# Altium schematic symbol library ADP7142ARDZ-R7.SchLib: 1 symbol
Pins are listed as number, name and electrical type; pins without a type are passive.

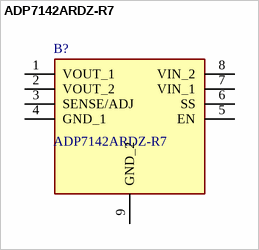
[diagram p0: symbol ADP7142ARDZ-R7]

## ADP7142ARDZ-R7
designator B?
40 V, 200 mA, Low Noise, CMOS LDO Linear Regulator; Manufacturer_Name: Analog Devices; Geometry.Height: 1.75mm; Mouser Part Number: 584-ADP7142ARDZ-R7; Mouser Price/Stock: https://www.mouser.co.uk/ProductDetail/Analog-Devices/ADP7142ARDZ-R7?qs=hpwIUhX6lWzjrObMcOmL6g%3D%3D; Manufacturer_Part_Number: ADP7142ARDZ-R7; Datasheet Link: https://www.analog.com/ADP7142/datasheet
footprint SOIC127P600X175-9N
pins: 1 VOUT_1, 2 VOUT_2, 3 SENSE/ADJ, 4 GND_1, 5 EN, 6 SS, 7 VIN_1, 8 VIN_2, 9 GND_2